# Altium footprint library SSOP-28_PIC.PcbLib: 1 footprints
Each footprint in its own frame and in the unit in brackets; x right, y up, seen from the top. Pads: shape width x height; smd on the part's side, far side on the other; paste and mask are expansions set on the pad; w line width, h text height; cw(c..) or ccw(c..) is an arc to the next point about the centre after c.
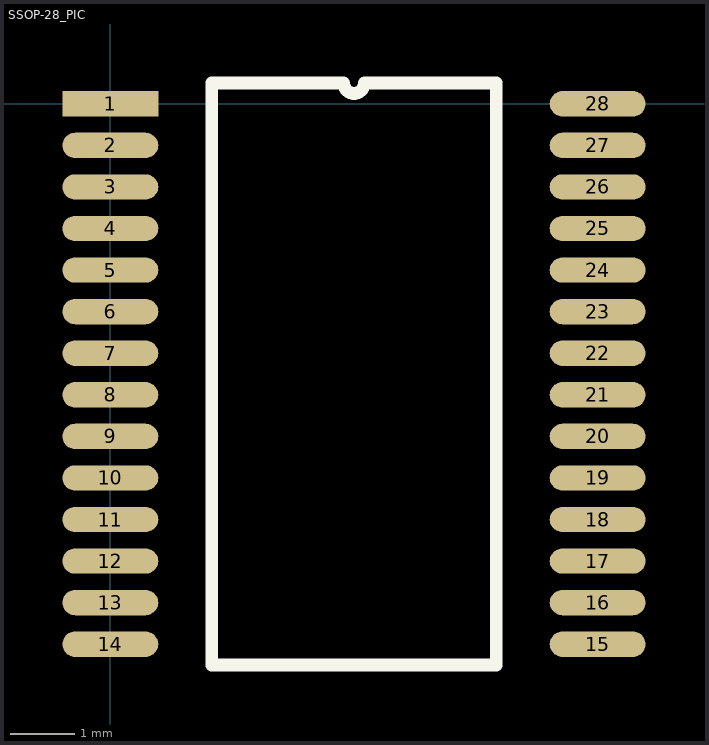
[diagram p0: the footprint, top view; thin cyan lines are the x and y axes]

## SSOP-28_PIC [mm]
pads (28):
  rect 1.5x0.396 smd: 1(0,0)
  oval 1.5x0.396 smd: 2(0,-0.65) 3(0,-1.3) 4(0,-1.95) 5(0,-2.6) 6(0,-3.25) 7(0,-3.9) 8(0,-4.55) 9(0,-5.2) 10(0,-5.85) 11(0,-6.5) 12(0,-7.15) 13(0,-7.8) 14(0,-8.45) 15(7.62,-8.45) 16(7.62,-7.8) 17(7.62,-7.15) 18(7.62,-6.5) 19(7.62,-5.85) 20(7.62,-5.2) 21(7.62,-4.55) 22(7.62,-3.9) 23(7.62,-3.25) 24(7.62,-2.6) 25(7.62,-1.95) 26(7.62,-1.3) 27(7.62,-0.65) 28(7.62,0)
Top Overlay:
  lines w0.2: 1.585,-8.775 1.585,0.325 3.648,0.325 ccw(c3.81,0.325) 3.972,0.325 6.035,0.325 6.035,-8.775 1.585,-8.775